# Altium schematic symbol library MCP41HV51-503E_ST.SchLib: 1 symbol
Pins are listed as number, name and electrical type; pins without a type are passive.

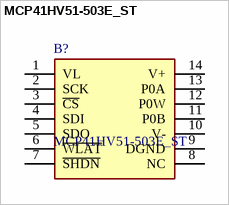
[diagram p0: symbol MCP41HV51-503E_ST]

## MCP41HV51-503E_ST
designator B?
MCP41HV51-503E/ST, Digital Potentiometer 50k 256-Position Serial-SPI 14-Pin TSSOP; Manufacturer_Name: Microchip; Geometry.Height: 1.2mm; Mouser Part Number: 579-MCP41HV51-503EST; Mouser Price/Stock: https://www.mouser.co.uk/ProductDetail/Microchip-Technology/MCP41HV51-503E-ST?qs=zOnbk8%2FsRx4ZUpOx9fi55g%3D%3D; Manufacturer_Part_Number: MCP41HV51-503E/ST; Datasheet Link: http://ww1.microchip.com/downloads/en/devicedoc/20005207b.pdf
footprint SOP65P640X120-14N
pins: 1 VL, 2 SCK, 3 ~{CS}, 4 SDI, 5 SDO, 6 ~{WLAT}, 7 ~{SHDN}, 8 NC, 9 DGND, 10 V-, 11 P0B, 12 P0W, 13 P0A, 14 V+